# Altium integrated library Analog Devices Data Converters Digital-to-Analog Converters.IntLib: 2231 symbols (part 147 of 181)
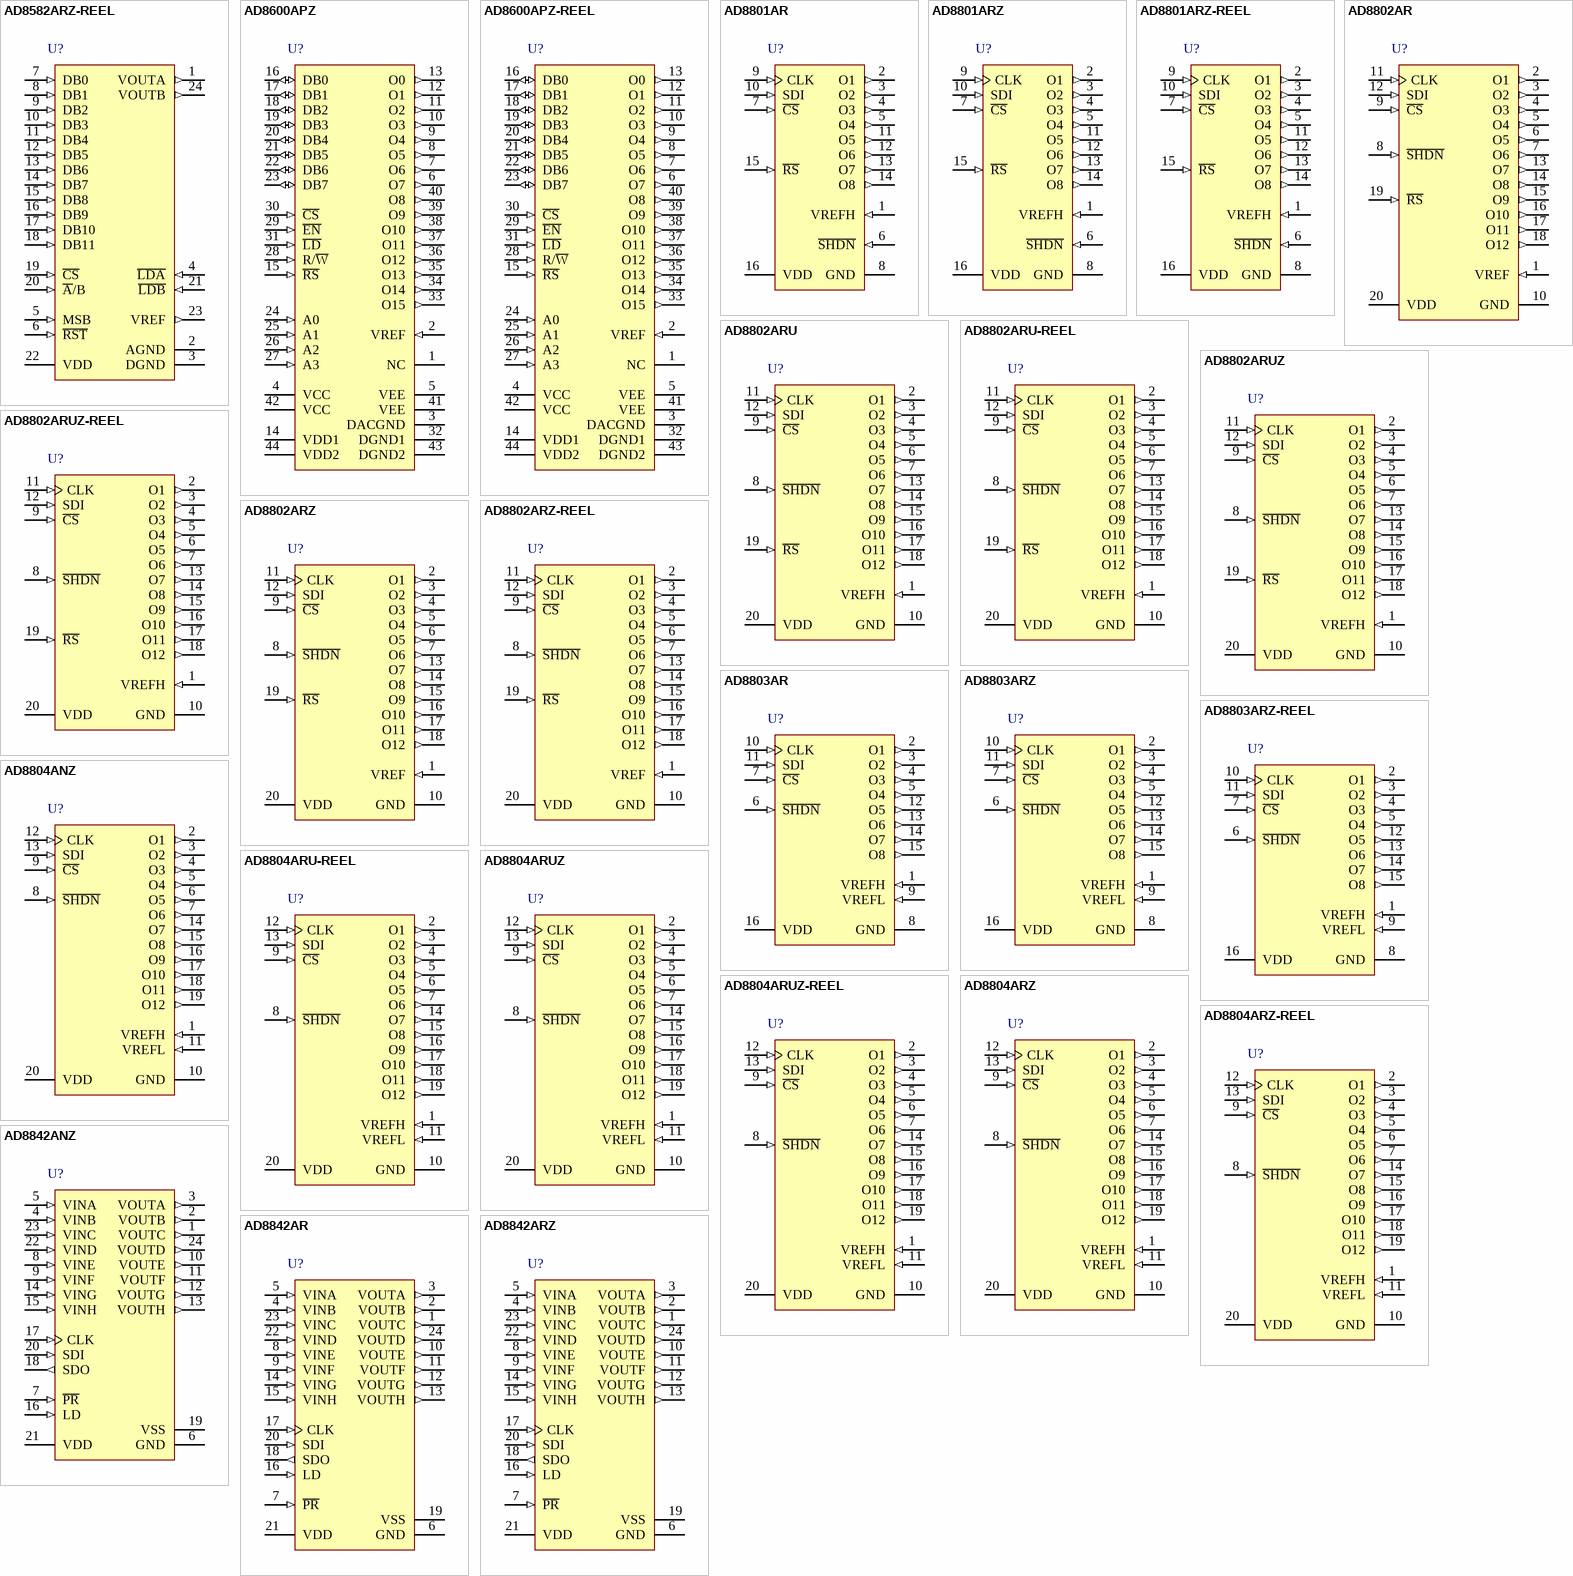
[diagram p260: symbols AD8582ARZ-REEL to AD8842ARZ]

## AD8600APZ-REEL
designator U?
16 Channel 8-Bit Multiplying Digital-to-Analog Converter, -40 to +85 degC, P-44A, Pb-Free, Reel; Generic Part Number: AD8600; Manufacturer: Analog Devices; PartNumber: AD8600APZ-REEL; # DAC Outputs: 16; Max V+: 7V; Op Pwr Diss: 350mW; Resolution (Bits): 8; Settling Time: 1µs; Single Supply: Yes; DatasheetVersion: Rev.0; PackageVersion: 2003; PackageReference: P-44A; PackageDescription: 44-Lead Plastic Leaded Chip Carrier [PLCC]; Supplier 1: Digi-Key; Supplier Part Number 1: AD8600APZ-REEL-ND; Packing: Reel; RoHS: Y; Mounting Technology: Surface Mount; Code_JEDEC: MO-047-AC; Code_IPC: PLCC-44; ComponentLink1Description: Manufacturer URL; ComponentLink1URL: http://www.analog.com/en/index.html; ComponentLink2Description: Datasheet; ComponentLink2URL: http://www.analog.com/static/imported-files/data_sheets/AD8600.pdf; ComponentLink3Description: Package Specification; ComponentLink3URL: http://www.analog.com/static/imported-files/packages/533756178731793364534243243792136664964P44A.pdf; ComponentLink4Description: Product URL; ComponentLink4URL: http://www.analog.com/en/digital-to-analog-converters/da-converters/ad8600/products/product.html
footprint P-44A_N (Leaded Chip Carrier, 44-Leads, Body 16.6x16.6mm, Pitch 1.27mm, IPC Medium Density)
footprint P-44A_L (Leaded Chip Carrier, 44-Leads, Body 16.6x16.6mm, Pitch 1.27mm, IPC High Density)
footprint P-44A_M (Leaded Chip Carrier, 44-Leads, Body 16.6x16.6mm, Pitch 1.27mm, IPC Low Density)
pins: 1 NC "No Connection", 2 VREF (in) "Reference input voltage common to all DACs.", 3 DACGND (power) "DAC Analog Ground Return. Sets analog zero-scale voltage.", 4 VCC (power) "Output Amplifier Positive Supply", 5 VEE (power) "Output Amplifier Negative Supply", 6 O7 (out) "DAC Channel Output No. 7", 7 O6 (out) "DAC Channel Output No. 6", 8 O5 (out) "DAC Channel Output No. 5", 9 O4 (out) "DAC Channel Output No. 4", 10 O3 (out) "DAC Channel Output No. 3", 11 O2 (out) "DAC Channel Output No. 2", 12 O1 (out) "DAC Channel Output No. 1", 13 O0 (out) "DAC Channel Output No. 0", 14 VDD1 (power) "Digital Logic Power Supply", 15 ~{RS} (in) "Active Low Reset Input Pin", 16 DB0 (io) "Data Bit Zero I/O (LSB)", 17 DB1 (io) "Data Bit I/O", 18 DB2 (io) "Data Bit I/O", 19 DB3 (io) "Data Bit I/O", 20 DB4 (io) "Data Bit I/O", 21 DB5 (io) "Data Bit I/O", 22 DB6 (io) "Data Bit I/O", 23 DB7 (io) "Most Significant Data Bit I/O (MSB)", 24 A0 (in) "Address Bit Zero (LSB)", 25 A1 (in) "Address Bit", 26 A2 (in) "Address Bit", 27 A3 (in) "Most Significant Addr Bit (MSB)", 28 R/~{W} (in) "Read/Write Select Control Input", 29 ~{EN} (in) "Active Low Enable Clock Strobe", 30 ~{CS} (in) "Chip Select Input", 31 ~{LD} (in) "DAC Register Load Strobe", 32 DGND1 (power) "Digital Ground Input No. 1", 33 O15 (out) "DAC Channel Output No. 15", 34 O14 (out) "DAC Channel Output No. 14", 35 O13 (out) "DAC Channel Output No. 13", 36 O12 (out) "DAC Channel Output No. 12", 37 O11 (out) "DAC Channel Output No. 11", 38 O10 (out) "DAC Channel Output No. 10", 39 O9 (out) "DAC Channel Output No. 9", 40 O8 (out) "DAC Channel Output No. 8", 41 VEE (power) "Output Amplifier Negative Supply", 42 VCC (power) "Output Amplifier Positive Supply", 43 DGND2 (power) "Digital Ground Input No. 2", 44 VDD2 (power) "DAC Analog Supply Voltage"

## AD8801AR
designator U?
Octal 8-Bit MDAC with Power Shutdown, -40 to +85 degC, R-16, Tube; Generic Part Number: AD8801; Manufacturer: Analog Devices; PartNumber: AD8801AR; # DAC Outputs: 8; Max V+: 5.5V; Op Pwr Diss: 20mW; Settling Time: 600ns; Single Supply: Yes; DatasheetVersion: Rev.A; PackageVersion: 060606-A; PackageReference: R-16; PackageDescription: 16-Lead Standard Small Outline Package [SOIC_N] Narrow Body; Supplier 1: Digi-Key; Supplier Part Number 1: AD8801AR-ND; Supplier 2: Mouser; Supplier Part Number 2: 584-AD8801AR; Packing: Tube; Resolution (Bits): 8; RoHS: N; Mounting Technology: Surface Mount; Code_JEDEC: MS-012-AC; ComponentLink1Description: Manufacturer URL; ComponentLink1URL: http://www.analog.com/en/index.html; ComponentLink2Description: Datasheet; ComponentLink2URL: http://www.analog.com/static/imported-files/data_sheets/AD8801_8803.pdf; ComponentLink3Description: Package Specification; ComponentLink3URL: http://www.analog.com/static/imported-files/packages/PKG_PDF/SOIC_Narrow%20(R)/R_16.pdf; ComponentLink4Description: Product URL; ComponentLink4URL: http://www.analog.com/en/digital-to-analog-converters/da-converters/ad8801/products/product.html
footprint R-16_N (SOIC, 16-Leads, Body 9.9x3.9mm, Pitch 1.27mm, IPC Medium Density)
footprint R-16_L (SOIC, 16-Leads, Body 9.9x3.9mm, Pitch 1.27mm, IPC High Density)
footprint R-16_M (SOIC, 16-Leads, Body 9.9x3.9mm, Pitch 1.27mm, IPC Low Density)
pins: 1 VREFH (in) "Common DAC Reference Input", 2 O1 (out) "DAC Output #1, Addr = 000", 3 O2 (out) "DAC Output #2, Addr = 001", 4 O3 (out) "DAC Output #3, Addr = 010", 5 O4 (out) "DAC Output #4, Addr = 011", 6 ~{SHDN} (in) "Reference input open circuit, active low, all DAC outputs open circuit. DAC latch settings maintained.", 7 ~{CS} (in) "Chip Select Input, active low. When C\S\ returns high, data in the serial input register is decoded based on the address bits and loaded into the target DAC register.", 8 GND (power) "Ground", 9 CLK (in) "Serial Clock Input, Positive Edge Triggered", 10 SDI (in) "Serial Data Input", 11 O5 (out) "DAC Output #5, Addr = 100", 12 O6 (out) "DAC Output #6, Addr = 101", 13 O7 (out) "DAC Output #7, Addr = 110", 14 O8 (out) "DAC Output #8, Addr = 111", 15 ~{RS} (in) "Asynchronous preset to midscale output setting,active low. Loads all DAC latches with 80H.", 16 VDD (power) "Positive power supply, specified for operation at both +3 V and +5 V."

## AD8801ARZ
designator U?
Octal 8-Bit MDAC with Power Shutdown, -40 to +85 degC, R-16, Pb-Free, Tube; Generic Part Number: AD8801; Manufacturer: Analog Devices; PartNumber: AD8801ARZ; # DAC Outputs: 8; Max V+: 5.5V; Op Pwr Diss: 20mW; Settling Time: 600ns; Single Supply: Yes; DatasheetVersion: Rev.A; PackageVersion: 060606-A; PackageReference: R-16; PackageDescription: 16-Lead Standard Small Outline Package [SOIC_N] Narrow Body; Supplier 1: Digi-Key; Supplier Part Number 1: AD8801ARZ-ND; Supplier 2: Farnell; Supplier Part Number 2: 1311358; Supplier 3: Newark; Supplier Part Number 3: 59K7101; Supplier 4: Mouser; Supplier Part Number 4: 584-AD8801ARZ; Packing: Tube; Resolution (Bits): 8; RoHS: Y; Mounting Technology: Surface Mount; Code_JEDEC: MS-012-AC; ComponentLink1Description: Manufacturer URL; ComponentLink1URL: http://www.analog.com/en/index.html; ComponentLink2Description: Datasheet; ComponentLink2URL: http://www.analog.com/static/imported-files/data_sheets/AD8801_8803.pdf; ComponentLink3Description: Package Specification; ComponentLink3URL: http://www.analog.com/static/imported-files/packages/PKG_PDF/SOIC_Narrow%20(R)/R_16.pdf; ComponentLink4Description: Product URL; ComponentLink4URL: http://www.analog.com/en/digital-to-analog-converters/da-converters/ad8801/products/product.html
footprint R-16_N (SOIC, 16-Leads, Body 9.9x3.9mm, Pitch 1.27mm, IPC Medium Density)
footprint R-16_L (SOIC, 16-Leads, Body 9.9x3.9mm, Pitch 1.27mm, IPC High Density)
footprint R-16_M (SOIC, 16-Leads, Body 9.9x3.9mm, Pitch 1.27mm, IPC Low Density)
pins: 1 VREFH (in) "Common DAC Reference Input", 2 O1 (out) "DAC Output #1, Addr = 000", 3 O2 (out) "DAC Output #2, Addr = 001", 4 O3 (out) "DAC Output #3, Addr = 010", 5 O4 (out) "DAC Output #4, Addr = 011", 6 ~{SHDN} (in) "Reference input open circuit, active low, all DAC outputs open circuit. DAC latch settings maintained.", 7 ~{CS} (in) "Chip Select Input, active low. When C\S\ returns high, data in the serial input register is decoded based on the address bits and loaded into the target DAC register.", 8 GND (power) "Ground", 9 CLK (in) "Serial Clock Input, Positive Edge Triggered", 10 SDI (in) "Serial Data Input", 11 O5 (out) "DAC Output #5, Addr = 100", 12 O6 (out) "DAC Output #6, Addr = 101", 13 O7 (out) "DAC Output #7, Addr = 110", 14 O8 (out) "DAC Output #8, Addr = 111", 15 ~{RS} (in) "Asynchronous preset to midscale output setting,active low. Loads all DAC latches with 80H.", 16 VDD (power) "Positive power supply, specified for operation at both +3 V and +5 V."

## AD8801ARZ-REEL
designator U?
Octal 8-Bit MDAC with Power Shutdown, -40 to +85 degC, R-16, Pb-Free, Reel; Generic Part Number: AD8801; Manufacturer: Analog Devices; PartNumber: AD8801ARZ-REEL; # DAC Outputs: 8; Max V+: 5.5V; Op Pwr Diss: 20mW; Settling Time: 600ns; Single Supply: Yes; DatasheetVersion: Rev.A; PackageVersion: 060606-A; PackageReference: R-16; PackageDescription: 16-Lead Standard Small Outline Package [SOIC_N] Narrow Body; Supplier 1: Digi-Key; Supplier Part Number 1: AD8801ARZ-REEL-ND; Supplier 2: Newark; Supplier Part Number 2: 59K7102; Supplier 3: Mouser; Supplier Part Number 3: 584-AD8801ARZ-R; Packing: Reel; Resolution (Bits): 8; RoHS: Y; Mounting Technology: Surface Mount; Code_JEDEC: MS-012-AC; ComponentLink1Description: Manufacturer URL; ComponentLink1URL: http://www.analog.com/en/index.html; ComponentLink2Description: Datasheet; ComponentLink2URL: http://www.analog.com/static/imported-files/data_sheets/AD8801_8803.pdf; ComponentLink3Description: Package Specification; ComponentLink3URL: http://www.analog.com/static/imported-files/packages/PKG_PDF/SOIC_Narrow%20(R)/R_16.pdf; ComponentLink4Description: Product URL; ComponentLink4URL: http://www.analog.com/en/digital-to-analog-converters/da-converters/ad8801/products/product.html
footprint R-16_N (SOIC, 16-Leads, Body 9.9x3.9mm, Pitch 1.27mm, IPC Medium Density)
footprint R-16_L (SOIC, 16-Leads, Body 9.9x3.9mm, Pitch 1.27mm, IPC High Density)
footprint R-16_M (SOIC, 16-Leads, Body 9.9x3.9mm, Pitch 1.27mm, IPC Low Density)
pins: 1 VREFH (in) "Common DAC Reference Input", 2 O1 (out) "DAC Output #1, Addr = 000", 3 O2 (out) "DAC Output #2, Addr = 001", 4 O3 (out) "DAC Output #3, Addr = 010", 5 O4 (out) "DAC Output #4, Addr = 011", 6 ~{SHDN} (in) "Reference input open circuit, active low, all DAC outputs open circuit. DAC latch settings maintained.", 7 ~{CS} (in) "Chip Select Input, active low. When C\S\ returns high, data in the serial input register is decoded based on the address bits and loaded into the target DAC register.", 8 GND (power) "Ground", 9 CLK (in) "Serial Clock Input, Positive Edge Triggered", 10 SDI (in) "Serial Data Input", 11 O5 (out) "DAC Output #5, Addr = 100", 12 O6 (out) "DAC Output #6, Addr = 101", 13 O7 (out) "DAC Output #7, Addr = 110", 14 O8 (out) "DAC Output #8, Addr = 111", 15 ~{RS} (in) "Asynchronous preset to midscale output setting,active low. Loads all DAC latches with 80H.", 16 VDD (power) "Positive power supply, specified for operation at both +3 V and +5 V."

## AD8802AR
designator U?
Dual 8-Bit MDAC with Power Shutdown, -40 to +85 degC, RW-20, Tube; Generic Part Number: AD8802; Manufacturer: Analog Devices; PartNumber: AD8802AR; # DAC Outputs: 12; Max V+: 5.5V; Op Pwr Diss: 20mW; Resolution (Bits): 8; Settling Time: 600ns; Single Supply: Yes; DatasheetVersion: Rev.0; PackageVersion: 060706-A; PackageReference: RW-20; PackageDescription: 20-Lead Standard Small Outline Package [SOIC_W] Wide Body; Supplier 1: Digi-Key; Supplier Part Number 1: AD8802AR-ND; Supplier 2: Mouser; Supplier Part Number 2: 584-AD8802AR; Packing: Tube; RoHS: N; Mounting Technology: Surface Mount; Code_JEDEC: MS-013-AC; ComponentLink1Description: Manufacturer URL; ComponentLink1URL: http://www.analog.com/en/index.html; ComponentLink2Description: Datasheet; ComponentLink2URL: http://www.analog.com/static/imported-files/data_sheets/AD8802_8804.pdf; ComponentLink3Description: Package Specification; ComponentLink3URL: http://www.analog.com/static/imported-files/packages/233848RW_20.pdf; ComponentLink4Description: Product URL; ComponentLink4URL: http://www.analog.com/en/digital-to-analog-converters/da-converters/ad8802/products/product.html
footprint RW-20_N (SOIC, 20-Leads, Body 12.8x7.5mm, Pitch 1.27mm, IPC Medium Density)
footprint RW-20_L (SOIC, 20-Leads, Body 12.8x7.5mm, Pitch 1.27mm, IPC High Density)
footprint RW-20_M (SOIC, 20-Leads, Body 12.8x7.5mm, Pitch 1.27mm, IPC Low Density)
pins: 1 VREF (in) "Common DAC Reference Input", 2 O1 (out) "DAC Output #1, addr = 0000", 3 O2 (out) "DAC Output #2, addr = 0001", 4 O3 (out) "DAC Output #3, addr = 0010", 5 O4 (out) "DAC Output #4, addr = 0011", 6 O5 (out) "DAC Output #5, addr = 0100", 7 O6 (out) "DAC Output #6, addr = 0101", 8 ~{SHDN} (in) "Reference input current goes to zero. DAC latch settings maintained", 9 ~{CS} (in) "Chip Select Input, Active Low. When C\S\ returns high, data in the serial input register is decoded based on the address bits and loaded into the target DAC register", 10 GND (power) "Ground", 11 CLK (in) "Serial Clock Input, Positive Edge Triggered", 12 SDI (in) "Serial Data Input", 13 O7 (out) "DAC Output #7, addr = 0110", 14 O8 (out) "DAC Output #8, addr = 0111", 15 O9 (out) "DAC Output #9, addr = 1000", 16 O10 (out) "DAC Output #10, addr = 1001", 17 O11 (out) "DAC Output #11, addr = 1010", 18 O12 (out) "DAC Output #12, addr = 1011", 19 ~{RS} (in) "Asynchronous Preset to Midscale Output Setting. Loads all DAC Registers with 80H", 20 VDD (power) "Positive Power Supply, Specified for Operation at Both +3 V and +5 V"

## AD8802ARU
designator U?
Dual 8-Bit MDAC with Power Shutdown, -40 to +85 degC, RU-20, Tube; Generic Part Number: AD8802; Manufacturer: Analog Devices; PartNumber: AD8802ARU; # DAC Outputs: 12; Max V+: 5.5V; Op Pwr Diss: 20mW; Resolution (Bits): 8; Settling Time: 600ns; Single Supply: Yes; DatasheetVersion: Rev.0; PackageVersion: 2000; PackageReference: RU-20; PackageDescription: 20-Lead Thin Shrink Small Outline Package [TSSOP]; Supplier 1: Digi-Key; Supplier Part Number 1: AD8802ARU-ND; Supplier 2: Mouser; Supplier Part Number 2: 584-AD8802ARU; Packing: Tube; RoHS: N; Mounting Technology: Surface Mount; Code_JEDEC: MO-153AC; ComponentLink1Description: Manufacturer URL; ComponentLink1URL: http://www.analog.com/en/index.html; ComponentLink2Description: Datasheet; ComponentLink2URL: http://www.analog.com/static/imported-files/data_sheets/AD8802_8804.pdf; ComponentLink3Description: Package Specification; ComponentLink3URL: http://www.analog.com/static/imported-files/packages/364515793657813558433715854054607941441RU20.pdf; ComponentLink4Description: Product URL; ComponentLink4URL: http://www.analog.com/en/digital-to-analog-converters/da-converters/ad8802/products/product.html
footprint RU-20_N (TSOP, 20-Leads, Body 6.5x4.4mm, Pitch 0.65mm, IPC Medium Density)
footprint RU-20_L (TSOP, 20-Leads, Body 6.5x4.4mm, Pitch 0.65mm, IPC High Density)
footprint RU-20_M (TSOP, 20-Leads, Body 6.5x4.4mm, Pitch 0.65mm, IPC Low Density)
pins: 1 VREFH (in) "Common DAC Reference Input", 2 O1 (out) "DAC Output #1, addr = 0000", 3 O2 (out) "DAC Output #2, addr = 0001", 4 O3 (out) "DAC Output #3, addr = 0010", 5 O4 (out) "DAC Output #4, addr = 0011", 6 O5 (out) "DAC Output #5, addr = 0100", 7 O6 (out) "DAC Output #6, addr = 0101", 8 ~{SHDN} (in) "Reference input current goes to zero. DAC latch settings maintained", 9 ~{CS} (in) "Chip Select Input, Active Low. When C\S\ returns high, data in the serial input register is decoded based on the address bits and loaded into the target DAC register", 10 GND (power) "Ground", 11 CLK (in) "Serial Clock Input, Positive Edge Triggered", 12 SDI (in) "Serial Data Input", 13 O7 (out) "DAC Output #7, addr = 0110", 14 O8 (out) "DAC Output #8, addr = 0111", 15 O9 (out) "DAC Output #9, addr = 1000", 16 O10 (out) "DAC Output #10, addr = 1001", 17 O11 (out) "DAC Output #11, addr = 1010", 18 O12 (out) "DAC Output #12, addr = 1011", 19 ~{RS} (in) "Asynchronous Preset to Midscale Output Setting. Loads all DAC Registers with 80H", 20 VDD (power) "Positive Power Supply, Specified for Operation at Both +3 V and +5 V"

## AD8802ARU-REEL
designator U?
Dual 8-Bit MDAC with Power Shutdown, -40 to +85 degC, RU-20, Reel; Generic Part Number: AD8802; Manufacturer: Analog Devices; PartNumber: AD8802ARU-REEL; # DAC Outputs: 12; Max V+: 5.5V; Op Pwr Diss: 20mW; Resolution (Bits): 8; Settling Time: 600ns; Single Supply: Yes; DatasheetVersion: Rev.0; PackageVersion: 2000; PackageReference: RU-20; PackageDescription: 20-Lead Thin Shrink Small Outline Package [TSSOP]; Supplier 1: Digi-Key; Supplier Part Number 1: AD8802ARU-REEL-ND; Supplier 2: Mouser; Supplier Part Number 2: 584-AD8802ARU-R; Packing: Reel; RoHS: N; Mounting Technology: Surface Mount; Code_JEDEC: MO-153AC; ComponentLink1Description: Manufacturer URL; ComponentLink1URL: http://www.analog.com/en/index.html; ComponentLink2Description: Datasheet; ComponentLink2URL: http://www.analog.com/static/imported-files/data_sheets/AD8802_8804.pdf; ComponentLink3Description: Package Specification; ComponentLink3URL: http://www.analog.com/static/imported-files/packages/364515793657813558433715854054607941441RU20.pdf; ComponentLink4Description: Product URL; ComponentLink4URL: http://www.analog.com/en/digital-to-analog-converters/da-converters/ad8802/products/product.html
footprint RU-20_N (TSOP, 20-Leads, Body 6.5x4.4mm, Pitch 0.65mm, IPC Medium Density)
footprint RU-20_L (TSOP, 20-Leads, Body 6.5x4.4mm, Pitch 0.65mm, IPC High Density)
footprint RU-20_M (TSOP, 20-Leads, Body 6.5x4.4mm, Pitch 0.65mm, IPC Low Density)
pins: 1 VREFH (in) "Common DAC Reference Input", 2 O1 (out) "DAC Output #1, addr = 0000", 3 O2 (out) "DAC Output #2, addr = 0001", 4 O3 (out) "DAC Output #3, addr = 0010", 5 O4 (out) "DAC Output #4, addr = 0011", 6 O5 (out) "DAC Output #5, addr = 0100", 7 O6 (out) "DAC Output #6, addr = 0101", 8 ~{SHDN} (in) "Reference input current goes to zero. DAC latch settings maintained", 9 ~{CS} (in) "Chip Select Input, Active Low. When C\S\ returns high, data in the serial input register is decoded based on the address bits and loaded into the target DAC register", 10 GND (power) "Ground", 11 CLK (in) "Serial Clock Input, Positive Edge Triggered", 12 SDI (in) "Serial Data Input", 13 O7 (out) "DAC Output #7, addr = 0110", 14 O8 (out) "DAC Output #8, addr = 0111", 15 O9 (out) "DAC Output #9, addr = 1000", 16 O10 (out) "DAC Output #10, addr = 1001", 17 O11 (out) "DAC Output #11, addr = 1010", 18 O12 (out) "DAC Output #12, addr = 1011", 19 ~{RS} (in) "Asynchronous Preset to Midscale Output Setting. Loads all DAC Registers with 80H", 20 VDD (power) "Positive Power Supply, Specified for Operation at Both +3 V and +5 V"

## AD8802ARUZ
designator U?
Dual 8-Bit MDAC with Power Shutdown, -40 to +85 degC, RU-20, Pb-Free, Tube; Generic Part Number: AD8802; Manufacturer: Analog Devices; PartNumber: AD8802ARUZ; # DAC Outputs: 12; Max V+: 5.5V; Op Pwr Diss: 20mW; Resolution (Bits): 8; Settling Time: 600ns; Single Supply: Yes; DatasheetVersion: Rev.0; PackageVersion: 2000; PackageReference: RU-20; PackageDescription: 20-Lead Thin Shrink Small Outline Package [TSSOP]; Supplier 1: Digi-Key; Supplier Part Number 1: AD8802ARUZ-ND; Supplier 2: Newark; Supplier Part Number 2: 59K7103; Supplier 3: Mouser; Supplier Part Number 3: 584-AD8802ARUZ; Packing: Tube; RoHS: Y; Mounting Technology: Surface Mount; Code_JEDEC: MO-153AC; ComponentLink1Description: Manufacturer URL; ComponentLink1URL: http://www.analog.com/en/index.html; ComponentLink2Description: Datasheet; ComponentLink2URL: http://www.analog.com/static/imported-files/data_sheets/AD8802_8804.pdf; ComponentLink3Description: Package Specification; ComponentLink3URL: http://www.analog.com/static/imported-files/packages/364515793657813558433715854054607941441RU20.pdf; ComponentLink4Description: Product URL; ComponentLink4URL: http://www.analog.com/en/digital-to-analog-converters/da-converters/ad8802/products/product.html
footprint RU-20_N (TSOP, 20-Leads, Body 6.5x4.4mm, Pitch 0.65mm, IPC Medium Density)
footprint RU-20_L (TSOP, 20-Leads, Body 6.5x4.4mm, Pitch 0.65mm, IPC High Density)
footprint RU-20_M (TSOP, 20-Leads, Body 6.5x4.4mm, Pitch 0.65mm, IPC Low Density)
pins: 1 VREFH (in) "Common DAC Reference Input", 2 O1 (out) "DAC Output #1, addr = 0000", 3 O2 (out) "DAC Output #2, addr = 0001", 4 O3 (out) "DAC Output #3, addr = 0010", 5 O4 (out) "DAC Output #4, addr = 0011", 6 O5 (out) "DAC Output #5, addr = 0100", 7 O6 (out) "DAC Output #6, addr = 0101", 8 ~{SHDN} (in) "Reference input current goes to zero. DAC latch settings maintained", 9 ~{CS} (in) "Chip Select Input, Active Low. When C\S\ returns high, data in the serial input register is decoded based on the address bits and loaded into the target DAC register", 10 GND (power) "Ground", 11 CLK (in) "Serial Clock Input, Positive Edge Triggered", 12 SDI (in) "Serial Data Input", 13 O7 (out) "DAC Output #7, addr = 0110", 14 O8 (out) "DAC Output #8, addr = 0111", 15 O9 (out) "DAC Output #9, addr = 1000", 16 O10 (out) "DAC Output #10, addr = 1001", 17 O11 (out) "DAC Output #11, addr = 1010", 18 O12 (out) "DAC Output #12, addr = 1011", 19 ~{RS} (in) "Asynchronous Preset to Midscale Output Setting. Loads all DAC Registers with 80H", 20 VDD (power) "Positive Power Supply, Specified for Operation at Both +3 V and +5 V"

## AD8802ARUZ-REEL
designator U?
Dual 8-Bit MDAC with Power Shutdown, -40 to +85 degC, RU-20, Pb-Free, Reel; Generic Part Number: AD8802; Manufacturer: Analog Devices; PartNumber: AD8802ARUZ-REEL; # DAC Outputs: 12; Max V+: 5.5V; Op Pwr Diss: 20mW; Resolution (Bits): 8; Settling Time: 600ns; Single Supply: Yes; DatasheetVersion: Rev.0; PackageVersion: 2000; PackageReference: RU-20; PackageDescription: 20-Lead Thin Shrink Small Outline Package [TSSOP]; Supplier 1: Digi-Key; Supplier Part Number 1: AD8802ARUZ-REEL-ND; Supplier 2: Mouser; Supplier Part Number 2: 584-AD8802ARUZ-R; Packing: Reel; RoHS: Y; Mounting Technology: Surface Mount; Code_JEDEC: MO-153AC; ComponentLink1Description: Manufacturer URL; ComponentLink1URL: http://www.analog.com/en/index.html; ComponentLink2Description: Datasheet; ComponentLink2URL: http://www.analog.com/static/imported-files/data_sheets/AD8802_8804.pdf; ComponentLink3Description: Package Specification; ComponentLink3URL: http://www.analog.com/static/imported-files/packages/364515793657813558433715854054607941441RU20.pdf; ComponentLink4Description: Product URL; ComponentLink4URL: http://www.analog.com/en/digital-to-analog-converters/da-converters/ad8802/products/product.html
footprint RU-20_N (TSOP, 20-Leads, Body 6.5x4.4mm, Pitch 0.65mm, IPC Medium Density)
footprint RU-20_L (TSOP, 20-Leads, Body 6.5x4.4mm, Pitch 0.65mm, IPC High Density)
footprint RU-20_M (TSOP, 20-Leads, Body 6.5x4.4mm, Pitch 0.65mm, IPC Low Density)
pins: 1 VREFH (in) "Common DAC Reference Input", 2 O1 (out) "DAC Output #1, addr = 0000", 3 O2 (out) "DAC Output #2, addr = 0001", 4 O3 (out) "DAC Output #3, addr = 0010", 5 O4 (out) "DAC Output #4, addr = 0011", 6 O5 (out) "DAC Output #5, addr = 0100", 7 O6 (out) "DAC Output #6, addr = 0101", 8 ~{SHDN} (in) "Reference input current goes to zero. DAC latch settings maintained", 9 ~{CS} (in) "Chip Select Input, Active Low. When C\S\ returns high, data in the serial input register is decoded based on the address bits and loaded into the target DAC register", 10 GND (power) "Ground", 11 CLK (in) "Serial Clock Input, Positive Edge Triggered", 12 SDI (in) "Serial Data Input", 13 O7 (out) "DAC Output #7, addr = 0110", 14 O8 (out) "DAC Output #8, addr = 0111", 15 O9 (out) "DAC Output #9, addr = 1000", 16 O10 (out) "DAC Output #10, addr = 1001", 17 O11 (out) "DAC Output #11, addr = 1010", 18 O12 (out) "DAC Output #12, addr = 1011", 19 ~{RS} (in) "Asynchronous Preset to Midscale Output Setting. Loads all DAC Registers with 80H", 20 VDD (power) "Positive Power Supply, Specified for Operation at Both +3 V and +5 V"

## AD8802ARZ
designator U?
Dual 8-Bit MDAC with Power Shutdown, -40 to +85 degC, RW-20, Pb-Free, Tube; Generic Part Number: AD8802; Manufacturer: Analog Devices; PartNumber: AD8802ARZ; # DAC Outputs: 12; Max V+: 5.5V; Op Pwr Diss: 20mW; Resolution (Bits): 8; Settling Time: 600ns; Single Supply: Yes; DatasheetVersion: Rev.0; PackageVersion: 060706-A; PackageReference: RW-20; PackageDescription: 20-Lead Standard Small Outline Package [SOIC_W] Wide Body; Supplier 1: Digi-Key; Supplier Part Number 1: AD8802ARZ-ND; Supplier 2: Newark; Supplier Part Number 2: 59K7105; Supplier 3: Mouser; Supplier Part Number 3: 584-AD8802ARZ; Packing: Tube; RoHS: Y; Mounting Technology: Surface Mount; Code_JEDEC: MS-013-AC; ComponentLink1Description: Manufacturer URL; ComponentLink1URL: http://www.analog.com/en/index.html; ComponentLink2Description: Datasheet; ComponentLink2URL: http://www.analog.com/static/imported-files/data_sheets/AD8802_8804.pdf; ComponentLink3Description: Package Specification; ComponentLink3URL: http://www.analog.com/static/imported-files/packages/233848RW_20.pdf; ComponentLink4Description: Product URL; ComponentLink4URL: http://www.analog.com/en/digital-to-analog-converters/da-converters/ad8802/products/product.html
footprint RW-20_N (SOIC, 20-Leads, Body 12.8x7.5mm, Pitch 1.27mm, IPC Medium Density)
footprint RW-20_L (SOIC, 20-Leads, Body 12.8x7.5mm, Pitch 1.27mm, IPC High Density)
footprint RW-20_M (SOIC, 20-Leads, Body 12.8x7.5mm, Pitch 1.27mm, IPC Low Density)
pins: 1 VREF (in) "Common DAC Reference Input", 2 O1 (out) "DAC Output #1, addr = 0000", 3 O2 (out) "DAC Output #2, addr = 0001", 4 O3 (out) "DAC Output #3, addr = 0010", 5 O4 (out) "DAC Output #4, addr = 0011", 6 O5 (out) "DAC Output #5, addr = 0100", 7 O6 (out) "DAC Output #6, addr = 0101", 8 ~{SHDN} (in) "Reference input current goes to zero. DAC latch settings maintained", 9 ~{CS} (in) "Chip Select Input, Active Low. When C\S\ returns high, data in the serial input register is decoded based on the address bits and loaded into the target DAC register", 10 GND (power) "Ground", 11 CLK (in) "Serial Clock Input, Positive Edge Triggered", 12 SDI (in) "Serial Data Input", 13 O7 (out) "DAC Output #7, addr = 0110", 14 O8 (out) "DAC Output #8, addr = 0111", 15 O9 (out) "DAC Output #9, addr = 1000", 16 O10 (out) "DAC Output #10, addr = 1001", 17 O11 (out) "DAC Output #11, addr = 1010", 18 O12 (out) "DAC Output #12, addr = 1011", 19 ~{RS} (in) "Asynchronous Preset to Midscale Output Setting. Loads all DAC Registers with 80H", 20 VDD (power) "Positive Power Supply, Specified for Operation at Both +3 V and +5 V"

## AD8802ARZ-REEL
designator U?
Dual 8-Bit MDAC with Power Shutdown, -40 to +85 degC, RW-20, Pb-Free, Reel; Generic Part Number: AD8802; Manufacturer: Analog Devices; PartNumber: AD8802ARZ-REEL; # DAC Outputs: 12; Max V+: 5.5V; Op Pwr Diss: 20mW; Resolution (Bits): 8; Settling Time: 600ns; Single Supply: Yes; DatasheetVersion: Rev.0; PackageVersion: 060706-A; PackageReference: RW-20; PackageDescription: 20-Lead Standard Small Outline Package [SOIC_W] Wide Body; Supplier 1: Digi-Key; Supplier Part Number 1: AD8802ARZ-REEL-ND; Supplier 2: Mouser; Supplier Part Number 2: 584-AD8802ARZ-R; Packing: Reel; RoHS: Y; Mounting Technology: Surface Mount; Code_JEDEC: MS-013-AC; ComponentLink1Description: Manufacturer URL; ComponentLink1URL: http://www.analog.com/en/index.html; ComponentLink2Description: Datasheet; ComponentLink2URL: http://www.analog.com/static/imported-files/data_sheets/AD8802_8804.pdf; ComponentLink3Description: Package Specification; ComponentLink3URL: http://www.analog.com/static/imported-files/packages/233848RW_20.pdf; ComponentLink4Description: Product URL; ComponentLink4URL: http://www.analog.com/en/digital-to-analog-converters/da-converters/ad8802/products/product.html
footprint RW-20_N (SOIC, 20-Leads, Body 12.8x7.5mm, Pitch 1.27mm, IPC Medium Density)
footprint RW-20_L (SOIC, 20-Leads, Body 12.8x7.5mm, Pitch 1.27mm, IPC High Density)
footprint RW-20_M (SOIC, 20-Leads, Body 12.8x7.5mm, Pitch 1.27mm, IPC Low Density)
pins: 1 VREF (in) "Common DAC Reference Input", 2 O1 (out) "DAC Output #1, addr = 0000", 3 O2 (out) "DAC Output #2, addr = 0001", 4 O3 (out) "DAC Output #3, addr = 0010", 5 O4 (out) "DAC Output #4, addr = 0011", 6 O5 (out) "DAC Output #5, addr = 0100", 7 O6 (out) "DAC Output #6, addr = 0101", 8 ~{SHDN} (in) "Reference input current goes to zero. DAC latch settings maintained", 9 ~{CS} (in) "Chip Select Input, Active Low. When C\S\ returns high, data in the serial input register is decoded based on the address bits and loaded into the target DAC register", 10 GND (power) "Ground", 11 CLK (in) "Serial Clock Input, Positive Edge Triggered", 12 SDI (in) "Serial Data Input", 13 O7 (out) "DAC Output #7, addr = 0110", 14 O8 (out) "DAC Output #8, addr = 0111", 15 O9 (out) "DAC Output #9, addr = 1000", 16 O10 (out) "DAC Output #10, addr = 1001", 17 O11 (out) "DAC Output #11, addr = 1010", 18 O12 (out) "DAC Output #12, addr = 1011", 19 ~{RS} (in) "Asynchronous Preset to Midscale Output Setting. Loads all DAC Registers with 80H", 20 VDD (power) "Positive Power Supply, Specified for Operation at Both +3 V and +5 V"

## AD8803AR
designator U?
Octal 8-Bit MDAC with Power Shutdown, -40 to +85 degC, R-16, Tube; Generic Part Number: AD8803; Manufacturer: Analog Devices; PartNumber: AD8803AR; # DAC Outputs: 8; Max V+: 5.5V; Op Pwr Diss: 20mW; Settling Time: 600ns; Single Supply: Yes; DatasheetVersion: Rev.A; PackageVersion: 060606-A; PackageReference: R-16; PackageDescription: 16-Lead Standard Small Outline Package [SOIC_N] Narrow Body; Supplier 1: Digi-Key; Supplier Part Number 1: AD8803AR-ND; Supplier 2: Mouser; Supplier Part Number 2: 584-AD8803AR; Packing: Tube; Resolution (Bits): 8; RoHS: N; Mounting Technology: Surface Mount; Code_JEDEC: MS-012-AC; ComponentLink1Description: Manufacturer URL; ComponentLink1URL: http://www.analog.com/en/index.html; ComponentLink2Description: Datasheet; ComponentLink2URL: http://www.analog.com/static/imported-files/data_sheets/AD8801_8803.pdf; ComponentLink3Description: Package Specification; ComponentLink3URL: http://www.analog.com/static/imported-files/packages/PKG_PDF/SOIC_Narrow%20(R)/R_16.pdf; ComponentLink4Description: Product URL; ComponentLink4URL: http://www.analog.com/en/digital-to-analog-converters/da-converters/ad8803/products/product.html
footprint R-16_N (SOIC, 16-Leads, Body 9.9x3.9mm, Pitch 1.27mm, IPC Medium Density)
footprint R-16_L (SOIC, 16-Leads, Body 9.9x3.9mm, Pitch 1.27mm, IPC High Density)
footprint R-16_M (SOIC, 16-Leads, Body 9.9x3.9mm, Pitch 1.27mm, IPC Low Density)
pins: 1 VREFH (in) "Common High-Side DAC Reference Input", 2 O1 (out) "DAC Output #1, Addr = 000.", 3 O2 (out) "DAC Output #2, Addr = 001.", 4 O3 (out) "DAC Output #3, Addr = 010.", 5 O4 (out) "DAC Output #4, Addr = 011.", 6 ~{SHDN} (in) "Reference inputs open circuit, active low, all DAC outputs open circuit. DAC latch settings maintained.", 7 ~{CS} (in) "Chip Select Input, active low. When C\S\ returns high, data in the serial input register is decoded based on the address bits and loaded into the target DAC register.", 8 GND (power) "Ground", 9 VREFL (in) "Common Low-Side DAC Reference Input", 10 CLK (in) "Serial Clock Input, Positive Edge Triggered", 11 SDI (in) "Serial Data Input", 12 O5 (out) "DAC Output #5, Addr = 100.", 13 O6 (out) "DAC Output #6, Addr = 101.", 14 O7 (out) "DAC Output #7, Addr = 110.", 15 O8 (out) "DAC Output #8, Addr = 111.", 16 VDD (power) "Positive power supply, specified for operation at both +3 V and +5 V."

## AD8803ARZ
designator U?
Octal 8-Bit MDAC with Power Shutdown, -40 to +85 degC, R-16, Pb-Free, Tube; Generic Part Number: AD8803; Manufacturer: Analog Devices; PartNumber: AD8803ARZ; # DAC Outputs: 8; Max V+: 5.5V; Op Pwr Diss: 20mW; Settling Time: 600ns; Single Supply: Yes; DatasheetVersion: Rev.A; PackageVersion: 060606-A; PackageReference: R-16; PackageDescription: 16-Lead Standard Small Outline Package [SOIC_N] Narrow Body; Supplier 1: Digi-Key; Supplier Part Number 1: AD8803ARZ-ND; Supplier 2: Farnell; Supplier Part Number 2: 1438630; Supplier 3: Newark; Supplier Part Number 3: 59K7107; Supplier 4: Mouser; Supplier Part Number 4: 584-AD8803ARZ; Packing: Tube; Resolution (Bits): 8; RoHS: Y; Mounting Technology: Surface Mount; Code_JEDEC: MS-012-AC; ComponentLink1Description: Manufacturer URL; ComponentLink1URL: http://www.analog.com/en/index.html; ComponentLink2Description: Datasheet; ComponentLink2URL: http://www.analog.com/static/imported-files/data_sheets/AD8801_8803.pdf; ComponentLink3Description: Package Specification; ComponentLink3URL: http://www.analog.com/static/imported-files/packages/PKG_PDF/SOIC_Narrow%20(R)/R_16.pdf; ComponentLink4Description: Product URL; ComponentLink4URL: http://www.analog.com/en/digital-to-analog-converters/da-converters/ad8803/products/product.html
footprint R-16_N (SOIC, 16-Leads, Body 9.9x3.9mm, Pitch 1.27mm, IPC Medium Density)
footprint R-16_L (SOIC, 16-Leads, Body 9.9x3.9mm, Pitch 1.27mm, IPC High Density)
footprint R-16_M (SOIC, 16-Leads, Body 9.9x3.9mm, Pitch 1.27mm, IPC Low Density)
pins: 1 VREFH (in) "Common High-Side DAC Reference Input", 2 O1 (out) "DAC Output #1, Addr = 000.", 3 O2 (out) "DAC Output #2, Addr = 001.", 4 O3 (out) "DAC Output #3, Addr = 010.", 5 O4 (out) "DAC Output #4, Addr = 011.", 6 ~{SHDN} (in) "Reference inputs open circuit, active low, all DAC outputs open circuit. DAC latch settings maintained.", 7 ~{CS} (in) "Chip Select Input, active low. When C\S\ returns high, data in the serial input register is decoded based on the address bits and loaded into the target DAC register.", 8 GND (power) "Ground", 9 VREFL (in) "Common Low-Side DAC Reference Input", 10 CLK (in) "Serial Clock Input, Positive Edge Triggered", 11 SDI (in) "Serial Data Input", 12 O5 (out) "DAC Output #5, Addr = 100.", 13 O6 (out) "DAC Output #6, Addr = 101.", 14 O7 (out) "DAC Output #7, Addr = 110.", 15 O8 (out) "DAC Output #8, Addr = 111.", 16 VDD (power) "Positive power supply, specified for operation at both +3 V and +5 V."

## AD8803ARZ-REEL
designator U?
Octal 8-Bit MDAC with Power Shutdown, -40 to +85 degC, R-16, Pb-Free, Reel; Generic Part Number: AD8803; Manufacturer: Analog Devices; PartNumber: AD8803ARZ-REEL; # DAC Outputs: 8; Max V+: 5.5V; Op Pwr Diss: 20mW; Settling Time: 600ns; Single Supply: Yes; DatasheetVersion: Rev.A; PackageVersion: 060606-A; PackageReference: R-16; PackageDescription: 16-Lead Standard Small Outline Package [SOIC_N] Narrow Body; Supplier 1: Digi-Key; Supplier Part Number 1: AD8803ARZ-REEL-ND; Supplier 2: Mouser; Supplier Part Number 2: 584-AD8803ARZ-R; Packing: Reel; Resolution (Bits): 8; RoHS: Y; Mounting Technology: Surface Mount; Code_JEDEC: MS-012-AC; ComponentLink1Description: Manufacturer URL; ComponentLink1URL: http://www.analog.com/en/index.html; ComponentLink2Description: Datasheet; ComponentLink2URL: http://www.analog.com/static/imported-files/data_sheets/AD8801_8803.pdf; ComponentLink3Description: Package Specification; ComponentLink3URL: http://www.analog.com/static/imported-files/packages/PKG_PDF/SOIC_Narrow%20(R)/R_16.pdf; ComponentLink4Description: Product URL; ComponentLink4URL: http://www.analog.com/en/digital-to-analog-converters/da-converters/ad8803/products/product.html
footprint R-16_N (SOIC, 16-Leads, Body 9.9x3.9mm, Pitch 1.27mm, IPC Medium Density)
footprint R-16_L (SOIC, 16-Leads, Body 9.9x3.9mm, Pitch 1.27mm, IPC High Density)
footprint R-16_M (SOIC, 16-Leads, Body 9.9x3.9mm, Pitch 1.27mm, IPC Low Density)
pins: 1 VREFH (in) "Common High-Side DAC Reference Input", 2 O1 (out) "DAC Output #1, Addr = 000.", 3 O2 (out) "DAC Output #2, Addr = 001.", 4 O3 (out) "DAC Output #3, Addr = 010.", 5 O4 (out) "DAC Output #4, Addr = 011.", 6 ~{SHDN} (in) "Reference inputs open circuit, active low, all DAC outputs open circuit. DAC latch settings maintained.", 7 ~{CS} (in) "Chip Select Input, active low. When C\S\ returns high, data in the serial input register is decoded based on the address bits and loaded into the target DAC register.", 8 GND (power) "Ground", 9 VREFL (in) "Common Low-Side DAC Reference Input", 10 CLK (in) "Serial Clock Input, Positive Edge Triggered", 11 SDI (in) "Serial Data Input", 12 O5 (out) "DAC Output #5, Addr = 100.", 13 O6 (out) "DAC Output #6, Addr = 101.", 14 O7 (out) "DAC Output #7, Addr = 110.", 15 O8 (out) "DAC Output #8, Addr = 111.", 16 VDD (power) "Positive power supply, specified for operation at both +3 V and +5 V."

## AD8804ANZ
designator U?
Dual 8-Bit MDAC with Power Shutdown, -40 to +85 degC, N-20, Pb-Free, Tube; Generic Part Number: AD8804; Manufacturer: Analog Devices; PartNumber: AD8804ANZ; # DAC Outputs: 12; Max V+: 5.5V; Op Pwr Diss: 20mW; Resolution (Bits): 8; Settling Time: 600ns; Single Supply: Yes; DatasheetVersion: Rev.0; PackageVersion: 070706-A; PackageReference: N-20; PackageDescription: 20-Lead Plastic Dual In-Line Package [PDIP] Narrow Body; Supplier 1: Digi-Key; Supplier Part Number 1: AD8804ANZ-ND; Supplier 2: Newark; Supplier Part Number 2: 12M9169; Supplier 3: Mouser; Supplier Part Number 3: 584-AD8804ANZ; Packing: Tube; RoHS: Y; Mounting Technology: Through Hole; Code_JEDEC: MS-001; ComponentLink1Description: Manufacturer URL; ComponentLink1URL: http://www.analog.com/en/index.html; ComponentLink2Description: Datasheet; ComponentLink2URL: http://www.analog.com/static/imported-files/data_sheets/AD8802_8804.pdf; ComponentLink3Description: Package Specification; ComponentLink3URL: http://www.analog.com/static/imported-files/packages/50601349676519N_20.pdf; ComponentLink4Description: Product URL; ComponentLink4URL: http://www.analog.com/en/digital-to-analog-converters/da-converters/ad8804/products/product.html
footprint N-20 (DIP, 20-Leads, Row Spacing 7.62mm, Pitch 2.54mm, Body 25.9x6.6mm)
pins: 1 VREFH (in) "Common High-Side DAC Reference Input", 2 O1 (out) "DAC Output #1, addr = 0000", 3 O2 (out) "DAC Output #2, addr = 0001", 4 O3 (out) "DAC Output #3, addr = 0010", 5 O4 (out) "DAC Output #4, addr = 0011", 6 O5 (out) "DAC Output #5, addr = 0100", 7 O6 (out) "DAC Output #6, addr = 0101", 8 ~{SHDN} (in) "Reference input current goes to zero. DAC latch settings maintained", 9 ~{CS} (in) "Chip Select Input, Active Low. When C\S\ returns high, data in the serial input register is decoded based on the address bits and loaded into the target DAC register", 10 GND (power) "Ground", 11 VREFL (in) "Common Low-Side DAC Reference Input", 12 CLK (in) "Serial Clock Input, Positive Edge Triggered", 13 SDI (in) "Serial Data Input", 14 O7 (out) "DAC Output #7, addr = 0110", 15 O8 (out) "DAC Output #8, addr = 0111", 16 O9 (out) "DAC Output #9, addr = 1000", 17 O10 (out) "DAC Output #10, addr = 1001", 18 O11 (out) "DAC Output #11, addr = 1010", 19 O12 (out) "DAC Output #12, addr = 1011", 20 VDD (power) "Positive power supply, specified for operation at both +3 V and +5 V"

## AD8804ARU-REEL
designator U?
Dual 8-Bit MDAC with Power Shutdown, -40 to +85 degC, RU-20, Reel; Generic Part Number: AD8804; Manufacturer: Analog Devices; PartNumber: AD8804ARU-REEL; # DAC Outputs: 12; Max V+: 5.5V; Op Pwr Diss: 20mW; Resolution (Bits): 8; Settling Time: 600ns; Single Supply: Yes; DatasheetVersion: Rev.0; PackageVersion: 2000; PackageReference: RU-20; PackageDescription: 20-Lead Thin Shrink Small Outline Package [TSSOP]; Supplier 1: Mouser; Supplier Part Number 1: N/A; Packing: Reel; RoHS: N; Mounting Technology: Surface Mount; Code_JEDEC: MO-153AC; ComponentLink1Description: Manufacturer URL; ComponentLink1URL: http://www.analog.com/en/index.html; ComponentLink2Description: Datasheet; ComponentLink2URL: http://www.analog.com/static/imported-files/data_sheets/AD8802_8804.pdf; ComponentLink3Description: Package Specification; ComponentLink3URL: http://www.analog.com/static/imported-files/packages/364515793657813558433715854054607941441RU20.pdf; ComponentLink4Description: Product URL; ComponentLink4URL: http://www.analog.com/en/digital-to-analog-converters/da-converters/ad8804/products/product.html
footprint RU-20_N (TSOP, 20-Leads, Body 6.5x4.4mm, Pitch 0.65mm, IPC Medium Density)
footprint RU-20_L (TSOP, 20-Leads, Body 6.5x4.4mm, Pitch 0.65mm, IPC High Density)
footprint RU-20_M (TSOP, 20-Leads, Body 6.5x4.4mm, Pitch 0.65mm, IPC Low Density)
pins: 1 VREFH (in) "Common High-Side DAC Reference Input", 2 O1 (out) "DAC Output #1, addr = 0000", 3 O2 (out) "DAC Output #2, addr = 0001", 4 O3 (out) "DAC Output #3, addr = 0010", 5 O4 (out) "DAC Output #4, addr = 0011", 6 O5 (out) "DAC Output #5, addr = 0100", 7 O6 (out) "DAC Output #6, addr = 0101", 8 ~{SHDN} (in) "Reference input current goes to zero. DAC latch settings maintained", 9 ~{CS} (in) "Chip Select Input, Active Low. When C\S\ returns high, data in the serial input register is decoded based on the address bits and loaded into the target DAC register", 10 GND (power) "Ground", 11 VREFL (in) "Common Low-Side DAC Reference Input", 12 CLK (in) "Serial Clock Input, Positive Edge Triggered", 13 SDI (in) "Serial Data Input", 14 O7 (out) "DAC Output #7, addr = 0110", 15 O8 (out) "DAC Output #8, addr = 0111", 16 O9 (out) "DAC Output #9, addr = 1000", 17 O10 (out) "DAC Output #10, addr = 1001", 18 O11 (out) "DAC Output #11, addr = 1010", 19 O12 (out) "DAC Output #12, addr = 1011", 20 VDD (power) "Positive Power Supply, Specified for Operation at Both +3 V and +5 V"

## AD8804ARUZ
designator U?
Dual 8-Bit MDAC with Power Shutdown, -40 to +85 degC, RU-20, Pb-Free, Tube; Generic Part Number: AD8804; Manufacturer: Analog Devices; PartNumber: AD8804ARUZ; # DAC Outputs: 12; Max V+: 5.5V; Op Pwr Diss: 20mW; Resolution (Bits): 8; Settling Time: 600ns; Single Supply: Yes; DatasheetVersion: Rev.0; PackageVersion: 2000; PackageReference: RU-20; PackageDescription: 20-Lead Thin Shrink Small Outline Package [TSSOP]; Supplier 1: Digi-Key; Supplier Part Number 1: AD8804ARUZ-ND; Supplier 2: Mouser; Supplier Part Number 2: 584-AD8804ARUZ; Packing: Tube; RoHS: Y; Mounting Technology: Surface Mount; Code_JEDEC: MO-153AC; ComponentLink1Description: Manufacturer URL; ComponentLink1URL: http://www.analog.com/en/index.html; ComponentLink2Description: Datasheet; ComponentLink2URL: http://www.analog.com/static/imported-files/data_sheets/AD8802_8804.pdf; ComponentLink3Description: Package Specification; ComponentLink3URL: http://www.analog.com/static/imported-files/packages/364515793657813558433715854054607941441RU20.pdf; ComponentLink4Description: Product URL; ComponentLink4URL: http://www.analog.com/en/digital-to-analog-converters/da-converters/ad8804/products/product.html
footprint RU-20_N (TSOP, 20-Leads, Body 6.5x4.4mm, Pitch 0.65mm, IPC Medium Density)
footprint RU-20_L (TSOP, 20-Leads, Body 6.5x4.4mm, Pitch 0.65mm, IPC High Density)
footprint RU-20_M (TSOP, 20-Leads, Body 6.5x4.4mm, Pitch 0.65mm, IPC Low Density)
pins: 1 VREFH (in) "Common High-Side DAC Reference Input", 2 O1 (out) "DAC Output #1, addr = 0000", 3 O2 (out) "DAC Output #2, addr = 0001", 4 O3 (out) "DAC Output #3, addr = 0010", 5 O4 (out) "DAC Output #4, addr = 0011", 6 O5 (out) "DAC Output #5, addr = 0100", 7 O6 (out) "DAC Output #6, addr = 0101", 8 ~{SHDN} (in) "Reference input current goes to zero. DAC latch settings maintained", 9 ~{CS} (in) "Chip Select Input, Active Low. When C\S\ returns high, data in the serial input register is decoded based on the address bits and loaded into the target DAC register", 10 GND (power) "Ground", 11 VREFL (in) "Common Low-Side DAC Reference Input", 12 CLK (in) "Serial Clock Input, Positive Edge Triggered", 13 SDI (in) "Serial Data Input", 14 O7 (out) "DAC Output #7, addr = 0110", 15 O8 (out) "DAC Output #8, addr = 0111", 16 O9 (out) "DAC Output #9, addr = 1000", 17 O10 (out) "DAC Output #10, addr = 1001", 18 O11 (out) "DAC Output #11, addr = 1010", 19 O12 (out) "DAC Output #12, addr = 1011", 20 VDD (power) "Positive Power Supply, Specified for Operation at Both +3 V and +5 V"

## AD8804ARUZ-REEL
designator U?
Dual 8-Bit MDAC with Power Shutdown, -40 to +85 degC, RU-20, Pb-Free, Reel; Generic Part Number: AD8804; Manufacturer: Analog Devices; PartNumber: AD8804ARUZ-REEL; # DAC Outputs: 12; Max V+: 5.5V; Op Pwr Diss: 20mW; Resolution (Bits): 8; Settling Time: 600ns; Single Supply: Yes; DatasheetVersion: Rev.0; PackageVersion: 2000; PackageReference: RU-20; PackageDescription: 20-Lead Thin Shrink Small Outline Package [TSSOP]; Supplier 1: Digi-Key; Supplier Part Number 1: AD8804ARUZ-REEL-ND; Supplier 2: Mouser; Supplier Part Number 2: 584-AD8804ARUZ-R; Packing: Reel; RoHS: Y; Mounting Technology: Surface Mount; Code_JEDEC: MO-153AC; ComponentLink1Description: Manufacturer URL; ComponentLink1URL: http://www.analog.com/en/index.html; ComponentLink2Description: Datasheet; ComponentLink2URL: http://www.analog.com/static/imported-files/data_sheets/AD8802_8804.pdf; ComponentLink3Description: Package Specification; ComponentLink3URL: http://www.analog.com/static/imported-files/packages/364515793657813558433715854054607941441RU20.pdf; ComponentLink4Description: Product URL; ComponentLink4URL: http://www.analog.com/en/digital-to-analog-converters/da-converters/ad8804/products/product.html
footprint RU-20_N (TSOP, 20-Leads, Body 6.5x4.4mm, Pitch 0.65mm, IPC Medium Density)
footprint RU-20_L (TSOP, 20-Leads, Body 6.5x4.4mm, Pitch 0.65mm, IPC High Density)
footprint RU-20_M (TSOP, 20-Leads, Body 6.5x4.4mm, Pitch 0.65mm, IPC Low Density)
pins: 1 VREFH (in) "Common High-Side DAC Reference Input", 2 O1 (out) "DAC Output #1, addr = 0000", 3 O2 (out) "DAC Output #2, addr = 0001", 4 O3 (out) "DAC Output #3, addr = 0010", 5 O4 (out) "DAC Output #4, addr = 0011", 6 O5 (out) "DAC Output #5, addr = 0100", 7 O6 (out) "DAC Output #6, addr = 0101", 8 ~{SHDN} (in) "Reference input current goes to zero. DAC latch settings maintained", 9 ~{CS} (in) "Chip Select Input, Active Low. When C\S\ returns high, data in the serial input register is decoded based on the address bits and loaded into the target DAC register", 10 GND (power) "Ground", 11 VREFL (in) "Common Low-Side DAC Reference Input", 12 CLK (in) "Serial Clock Input, Positive Edge Triggered", 13 SDI (in) "Serial Data Input", 14 O7 (out) "DAC Output #7, addr = 0110", 15 O8 (out) "DAC Output #8, addr = 0111", 16 O9 (out) "DAC Output #9, addr = 1000", 17 O10 (out) "DAC Output #10, addr = 1001", 18 O11 (out) "DAC Output #11, addr = 1010", 19 O12 (out) "DAC Output #12, addr = 1011", 20 VDD (power) "Positive Power Supply, Specified for Operation at Both +3 V and +5 V"

## AD8804ARZ
designator U?
Dual 8-Bit MDAC with Power Shutdown, -40 to +85 degC, RW-20, Pb-Free, Tube; Generic Part Number: AD8804; Manufacturer: Analog Devices; PartNumber: AD8804ARZ; # DAC Outputs: 12; Max V+: 5.5V; Op Pwr Diss: 20mW; Resolution (Bits): 8; Settling Time: 600ns; Single Supply: Yes; DatasheetVersion: Rev.0; PackageVersion: 060706-A; PackageReference: RW-20; PackageDescription: 20-Lead Standard Small Outline Package [SOIC_W] Wide Body; Supplier 1: Digi-Key; Supplier Part Number 1: AD8804ARZ-ND; Supplier 2: Farnell; Supplier Part Number 2: 2312813; Supplier 3: Newark; Supplier Part Number 3: 59K7111; Supplier 4: Mouser; Supplier Part Number 4: 584-AD8804ARZ; Packing: Tube; RoHS: Y; Mounting Technology: Surface Mount; Code_JEDEC: MS-013-AC; ComponentLink1Description: Manufacturer URL; ComponentLink1URL: http://www.analog.com/en/index.html; ComponentLink2Description: Datasheet; ComponentLink2URL: http://www.analog.com/static/imported-files/data_sheets/AD8802_8804.pdf; ComponentLink3Description: Package Specification; ComponentLink3URL: http://www.analog.com/static/imported-files/packages/233848RW_20.pdf; ComponentLink4Description: Product URL; ComponentLink4URL: http://www.analog.com/en/digital-to-analog-converters/da-converters/ad8804/products/product.html
footprint RW-20_N (SOIC, 20-Leads, Body 12.8x7.5mm, Pitch 1.27mm, IPC Medium Density)
footprint RW-20_L (SOIC, 20-Leads, Body 12.8x7.5mm, Pitch 1.27mm, IPC High Density)
footprint RW-20_M (SOIC, 20-Leads, Body 12.8x7.5mm, Pitch 1.27mm, IPC Low Density)
pins: 1 VREFH (in) "Common High-Side DAC Reference Input", 2 O1 (out) "DAC Output #1, addr = 0000", 3 O2 (out) "DAC Output #2, addr = 0001", 4 O3 (out) "DAC Output #3, addr = 0010", 5 O4 (out) "DAC Output #4, addr = 0011", 6 O5 (out) "DAC Output #5, addr = 0100", 7 O6 (out) "DAC Output #6, addr = 0101", 8 ~{SHDN} (in) "Reference input current goes to zero. DAC latch settings maintained", 9 ~{CS} (in) "Chip Select Input, Active Low. When C\S\ returns high, data in the serial input register is decoded based on the address bits and loaded into the target DAC register", 10 GND (power) "Ground", 11 VREFL (in) "Common Low-Side DAC Reference Input", 12 CLK (in) "Serial Clock Input, Positive Edge Triggered", 13 SDI (in) "Serial Data Input", 14 O7 (out) "DAC Output #7, addr = 0110", 15 O8 (out) "DAC Output #8, addr = 0111", 16 O9 (out) "DAC Output #9, addr = 1000", 17 O10 (out) "DAC Output #10, addr = 1001", 18 O11 (out) "DAC Output #11, addr = 1010", 19 O12 (out) "DAC Output #12, addr = 1011", 20 VDD (power) "Positive Power Supply, Specified for Operation at Both +3 V and +5 V"